# Altium footprint library GCT_BD125-10-A-0305-0580-L-B.PcbLib: 1 footprints
Each footprint in its own frame and in the unit in brackets; x right, y up, seen from the top. Pads: shape width x height; smd on the part's side, far side on the other; paste and mask are expansions set on the pad; w line width, h text height; cw(c..) or ccw(c..) is an arc to the next point about the centre after c.
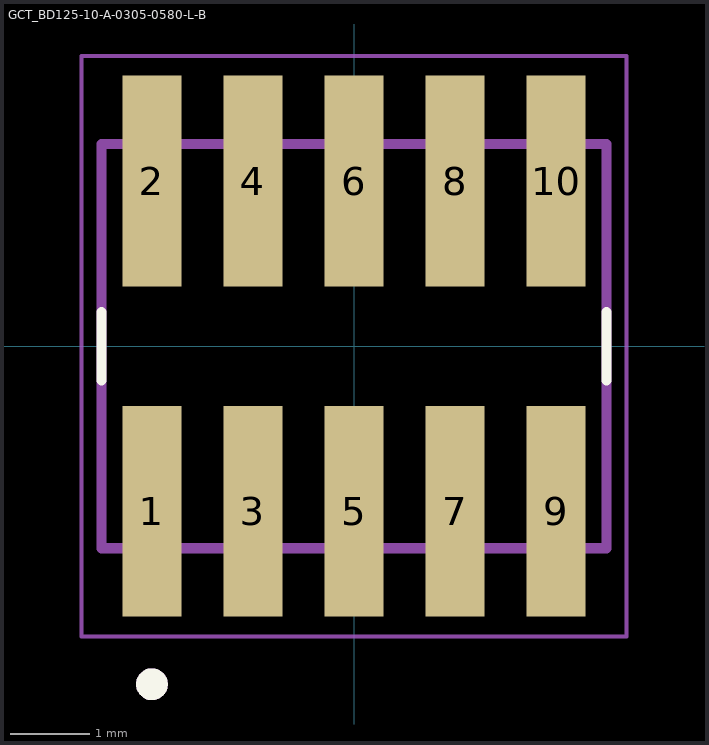
[diagram p0: the footprint, top view; thin cyan lines are the x and y axes]

## GCT_BD125-10-A-0305-0580-L-B [mm]
height 6.37
pads (10):
  rect 0.74x2.65 smd: 1(-2.54,-2.075) 2(-2.54,2.075) 3(-1.27,-2.075) 4(-1.27,2.075) 5(0,-2.075) 6(0,2.075) 7(1.27,-2.075) 8(1.27,2.075) 9(2.54,-2.075) 10(2.54,2.075)
Top Overlay:
  circle w0.2: c-2.54,-4.25 r0.1
  lines w0.127: -3.175,-0.43 -3.175,0.43 ; 3.175,-0.43 3.175,0.43
Mechanical 13:
  circle w0.2: c-2.54,-4.25 r0.1
  lines w0.127: -3.175,-2.54 -3.175,2.54 3.175,2.54 3.175,-2.54 -3.175,-2.54
Mechanical 15:
  lines w0.05: -3.425,-3.65 -3.425,3.65 3.425,3.65 3.425,-3.65 -3.425,-3.65
3D body "step_temp.STEP": height 6.12, standoff 0, extent -3.175,-2.9 3.175,2.9